# EAGLE library part AVRISP-? (library shcustomlib)
AVR In-System Programmer (AVRISP) Connector Package(s): 2x3 SMD Header Manufacturer(s): Generic
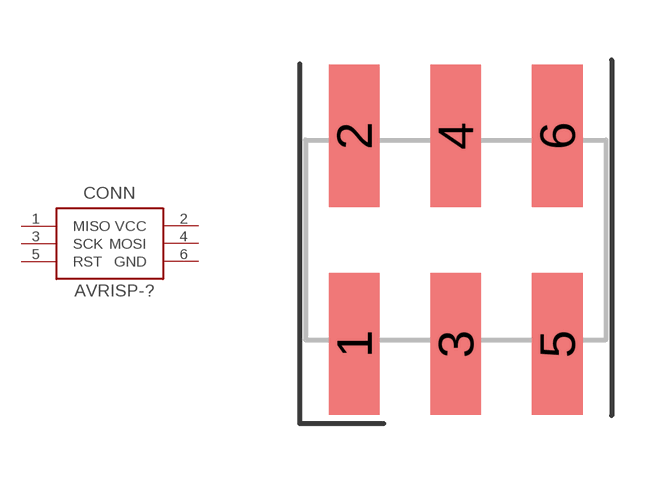
[diagram p5: symbol with the pads of PINHEADER-2X3-SMD; footprint PINHEADER-2X3-SMD]

Designator prefix CONN

## AVRISP-6-SMD  [PINHEADER-2X3-SMD]
1  MISO  in
2  VCC  pwr
3  SCK  out
4  MOSI  out
5  RST  out
6  GND  pwr

## Footprint PINHEADER-2X3-SMD (pad centres in mm)
smd 1.27 x 3.56: 1 -2.54,-2.605; 2 -2.54,2.605; 3 0,-2.605; 4 0,2.605; 5 2.54,-2.605; 6 2.54,2.605